# Altium footprint library IPC-7352 DPAK_M.PcbLib: 2 footprints
Each footprint in its own frame and in the unit in brackets; x right, y up, seen from the top. Pads: shape width x height; smd on the part's side, far side on the other; paste and mask are expansions set on the pad; w line width, h text height; cw(c..) or ccw(c..) is an arc to the next point about the centre after c.
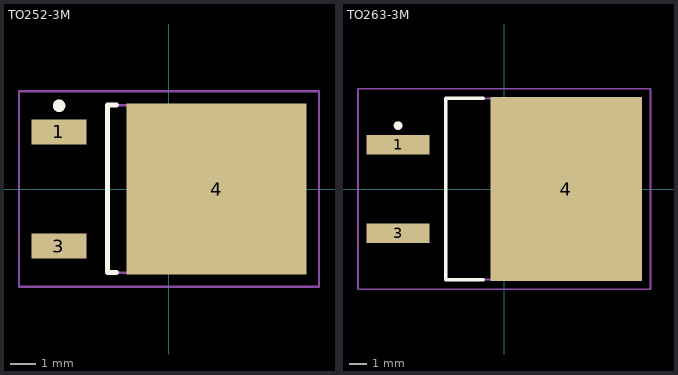
[diagram p0: the footprints below, top view; thin cyan lines are the x and y axes]

## TO252-3M [mm] "D-PAK, 4-Leads, Body 6.1x6.5mm, Pitch 2.28mm, Lead Span 9.7mm, IPC Low Density"
height 2.38
pads (3):
  rect 2.2x1 smd: 1(-4.4,2.28) 3(-4.4,-2.28)
  rect 7.2x6.85 smd: 4(1.9,0)
Top Overlay:
  circle w0.25: c-4.4,3.33 r0.125
  lines w0.2: -2.1,-3.35 -2.45,-3.35 -2.45,3.35 -2.1,3.35
Mechanical 13:
  lines w0.1: -2.45,-3.35 3.75,-3.35 3.75,3.35 -2.45,3.35 -2.45,-3.35
Mechanical 15:
  lines w0.1: -0.5,0 0.5,0 ; 0,-0.5 0,0.5 ; -6,-3.9 6,-3.9 6,3.9 -6,3.9 -6,-3.9
3D body: height 2.38, standoff 0, extent -2.45,-3.35 3.75,3.35

## TO263-3M [mm] "D2-PAK, 4-Leads, Body 9.4x10.2mm, Pitch 2.54mm, Lead Span 14.3mm, IPC Low Density"
height 4.65
pads (3):
  rect 3.6x1.1 smd: 1(-6.1,2.54) 3(-6.1,-2.54)
  rect 8.7x10.55 smd: 4(3.55,0)
Top Overlay:
  circle w0.25: c-6.1,3.64 r0.125
  lines w0.2: -1.2,-5.2 -3.35,-5.2 -3.35,5.2 -1.2,5.2
Mechanical 13:
  lines w0.1: -3.35,-5.2 -3.35,5.2 6.05,5.2 6.05,-5.2 -3.35,-5.2
Mechanical 15:
  lines w0.1: -0.5,0 0.5,0 ; 0,-0.5 0,0.5 ; -8.4,-5.75 -8.4,5.75 8.4,5.75 8.4,-5.75 -8.4,-5.75
3D body: height 4.65, standoff 0, extent -3.35,-5.2 6.05,5.2